# Altium footprint library AVR-10.PcbLib: 1 footprints
Each footprint in its own frame and in the unit in brackets; x right, y up, seen from the top. Pads: shape width x height; smd on the part's side, far side on the other; paste and mask are expansions set on the pad; w line width, h text height; cw(c..) or ccw(c..) is an arc to the next point about the centre after c.
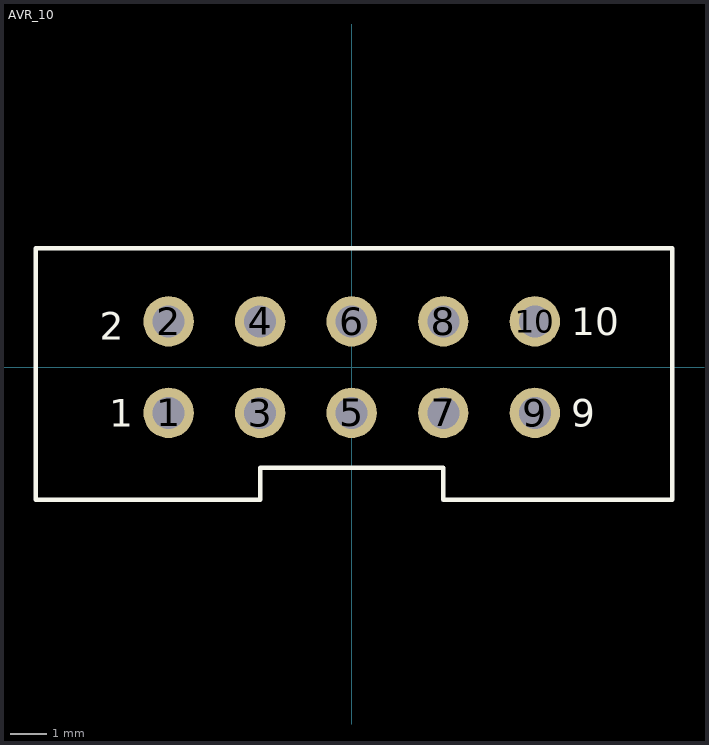
[diagram p0: the footprint, top view; thin cyan lines are the x and y axes]

## AVR_10 [mil] "烧录器"
pads (10):
  round 55 hole 35: 1(-200,-50) 2(-200,50) 3(-100,-50) 4(-100,50) 5(0,-50) 6(0,50) 7(100,-50) 8(100,50) 9(200,-50) 10(200,50)
Top Overlay:
  lines w5: -345,-145 -345,130 350,130 350,-145 100,-145 100,-110 -100,-110 -100,-145 -345,-145
  text "1" at -265,-65 h30
  text "2" at -275,30 h30
  text "9" at 240,-65 h30
  text "10" at 240,35 h30